# Altium footprint library IC_Other.PcbLib: 5 footprints
Each footprint in its own frame and in the unit in brackets; x right, y up, seen from the top. Pads: shape width x height; smd on the part's side, far side on the other; paste and mask are expansions set on the pad; w line width, h text height; cw(c..) or ccw(c..) is an arc to the next point about the centre after c.
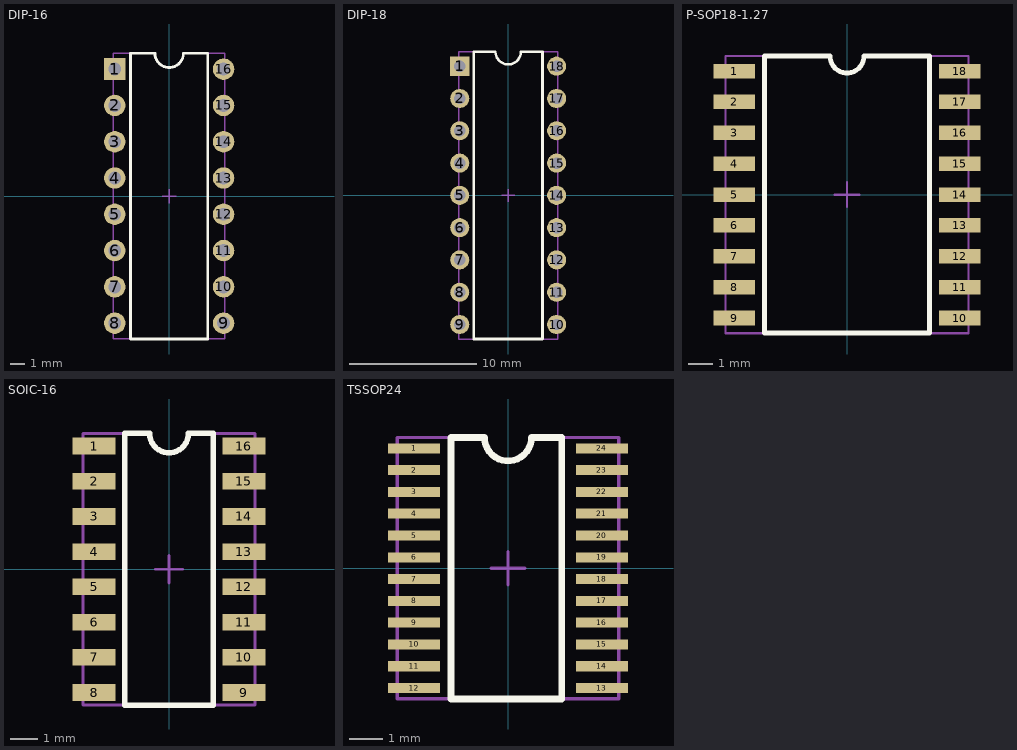
[diagram p0: the footprints below, top view; thin cyan lines are the x and y axes]

## DIP-16 [mm]
height 2.5
pads (16):
  rect 1.5x1.55 hole 0.9: 1(-3.81,8.89)
  round 1.5 hole 0.9: 2(-3.81,6.35) 3(-3.81,3.81) 4(-3.81,1.27) 5(-3.81,-1.27) 6(-3.81,-3.81) 7(-3.81,-6.35) 8(-3.81,-8.89) 9(3.81,-8.89) 10(3.81,-6.35) 11(3.81,-3.81) 12(3.81,-1.27) 13(3.81,1.27) 14(3.81,3.81) 15(3.81,6.35) 16(3.81,8.89)
Top Overlay:
  lines w0.2: -2.7,-10 -2.7,10 -1,10 ccw(c0,10) 1,10 2.7,10 2.7,-10 -2.7,-10
ReperDotTop:
  lines w0.1: -0.5,0 0.5,0 ; 0,-0.5 0,0.5
AssemblyOutlineTop:
  lines w0.1: -3.9,-10 -3.9,10 -1,10 ccw(c0,10) 1,10 3.9,10 3.9,-10 -3.9,-10
  text "'.Designator'" at 0,0 h2.5
3D body "CircuitWorks-DIP 16 IC.step": height 5.1, standoff -3.3, extent -3.935,-9.9 3.935,10.1

## DIP-18 [mm]
height 2.5
pads (18):
  rect 1.5x1.55 hole 0.9: 1(-3.81,10.16)
  round 1.5 hole 0.9: 2(-3.81,7.62) 3(-3.81,5.08) 4(-3.81,2.54) 5(-3.81,0) 6(-3.81,-2.54) 7(-3.81,-5.08) 8(-3.81,-7.62) 9(-3.81,-10.16) 10(3.81,-10.16) 11(3.81,-7.62) 12(3.81,-5.08) 13(3.81,-2.54) 14(3.81,0) 15(3.81,2.54) 16(3.81,5.08) 17(3.81,7.62) 18(3.81,10.16)
Top Overlay:
  lines w0.2: -2.7,-11.3 2.7,-11.3 2.7,11.3 1,11.3 cw(c0,11.3) -1,11.3 -2.7,11.3 -2.7,-11.3
ReperDotTop:
  lines w0.1: -0.5,0 0.5,0 ; 0,-0.5 0,0.5
AssemblyOutlineTop:
  lines w0.1: -3.9,-11.3 3.9,-11.3 3.9,11.3 1,11.3 cw(c0,11.3) -1,11.3 -3.9,11.3 -3.9,-11.3
  text "'.Designator'" at 0,0 h2.5
3D body "User Library-DIP18-300.step": height 5.08, standoff -2.49, extent -3.935,-11.495 3.935,11.495

## P-SOP18-1.27 [mm] "18 Lead SOP Package, Clamp 1.27mm, Body 11.4x7.4mm"
height 2.5
pads (18):
  rect 1.725x0.6 smd: 1(-4.637,5.08) 2(-4.637,3.81) 3(-4.637,2.54) 4(-4.637,1.27) 5(-4.637,0) 6(-4.637,-1.27) 7(-4.637,-2.54) 8(-4.637,-3.81) 9(-4.637,-5.08) 10(4.637,-5.08) 11(4.637,-3.81) 12(4.637,-2.54) 13(4.637,-1.27) 14(4.637,0) 15(4.637,1.27) 16(4.637,2.54) 17(4.637,3.81) 18(4.637,5.08)
Top Overlay:
  lines w0.2: -3.4,-5.7 3.4,-5.7 3.4,5.7 0.7,5.7 cw(c0,5.7) -0.7,5.7 -3.4,5.7 -3.4,-5.7
ReperDotTop:
  lines w0.1: -0.5,0 0.5,0 ; 0,-0.5 0,0.5
AssemblyOutlineTop:
  lines w0.1: -5,-5.7 5,-5.7 5,5.7 0.7,5.7 cw(c0,5.7) -0.7,5.7 -5,5.7 -5,-5.7
  text "'.Designator'" at 0,0 h2.5
3D body "User Library-SOIC.step": height 1.7, standoff 0, extent -5.318,-5.601 5.325,5.575

## SOIC-16 [mm] "16 Lead SOIC Package, Clamp 1.27mm, Body 9.8x3.8mm"
height 2.5
pads (16):
  rect 1.55x0.6 smd: 1(-2.7,4.445) 2(-2.7,3.175) 3(-2.7,1.905) 4(-2.7,0.635) 5(-2.7,-0.635) 6(-2.7,-1.905) 7(-2.7,-3.175) 8(-2.7,-4.445) 9(2.7,-4.445) 10(2.7,-3.175) 11(2.7,-1.905) 12(2.7,-0.635) 13(2.7,0.635) 14(2.7,1.905) 15(2.7,3.175) 16(2.7,4.445)
Top Overlay:
  lines w0.2: -1.6,-4.9 -1.6,4.9 -0.7,4.9 ccw(c0,4.9) 0.7,4.9 1.6,4.9 1.6,-4.9 -1.6,-4.9
ReperDotTop:
  lines w0.1: -0.5,0 0.5,0 ; 0,-0.5 0,0.5
AssemblyOutlineTop:
  lines w0.1: -3.1,-4.9 -3.1,4.9 -0.7,4.9 ccw(c0,4.9) 0.7,4.9 3.1,4.9 3.1,-4.9 -3.1,-4.9
  text "'.Designator'" at 0,0 h2.5
3D body "User Library-SOIC-16-1.step": height 1.4, standoff 0, extent -3,-4.95 3,4.95

## TSSOP24 [mm] "24 Lead TSSOP Package, Clamp 0.65mm, Body 7.8x4.5mm"
height 2.5
pads (24):
  rect 1.55x0.3 smd: 1(-2.8,3.575) 2(-2.8,2.925) 3(-2.8,2.275) 4(-2.8,1.625) 5(-2.8,0.975) 6(-2.8,0.325) 7(-2.8,-0.325) 8(-2.8,-0.975) 9(-2.8,-1.625) 10(-2.8,-2.275) 11(-2.8,-2.925) 12(-2.8,-3.575) 13(2.8,-3.575) 14(2.8,-2.925) 15(2.8,-2.275) 16(2.8,-1.625) 17(2.8,-0.975) 18(2.8,-0.325) 19(2.8,0.325) 20(2.8,0.975) 21(2.8,1.625) 22(2.8,2.275) 23(2.8,2.925) 24(2.8,3.575)
Top Overlay:
  lines w0.2: -1.7,-3.9 -1.7,3.9 -0.7,3.9 ccw(c0,3.9) 0.7,3.9 1.6,3.9 1.6,-3.9 -1.7,-3.9
ReperDotTop:
  lines w0.1: -0.5,0 0.5,0 ; 0,-0.5 0,0.5
AssemblyOutlineTop:
  lines w0.1: -3.3,-3.9 -3.3,3.9 -0.7,3.9 ccw(c0,3.9) 0.7,3.9 3.3,3.9 3.3,-3.9 -3.3,-3.9
  text "'.Designator'" at 0,0 h2.5
3D body "User Library-TSSOP24_(JEDEC_MO-153).step": height 1.25, standoff 0.05, extent -3.278,-3.95 3.278,3.95